# Altium schematic symbol library TMUX1119.SchLib: 1 symbol
Pins are listed as number, name and electrical type; pins without a type are passive.

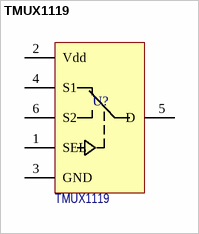
[diagram p0: symbol TMUX1119]

## TMUX1119
designator U?
Low-leakage current, 2:1 precision switch; Потребление, Вт: 0.0; Назначение: Low-leakage current, 2:1 precision switch; DataSheet: https://www.ti.com/lit/ds/symlink/tmux1119.pdf; Наименование: TMUX1119
footprint SC70-6
footprint SOT23-6
pins: 1 SEL, 2 Vdd, 3 GND, 4 S1, 5 D, 6 S2